# Altium footprint library Switches.PcbLib: 1 footprints
Each footprint in its own frame and in the unit in brackets; x right, y up, seen from the top. Pads: shape width x height; smd on the part's side, far side on the other; paste and mask are expansions set on the pad; w line width, h text height; cw(c..) or ccw(c..) is an arc to the next point about the centre after c.
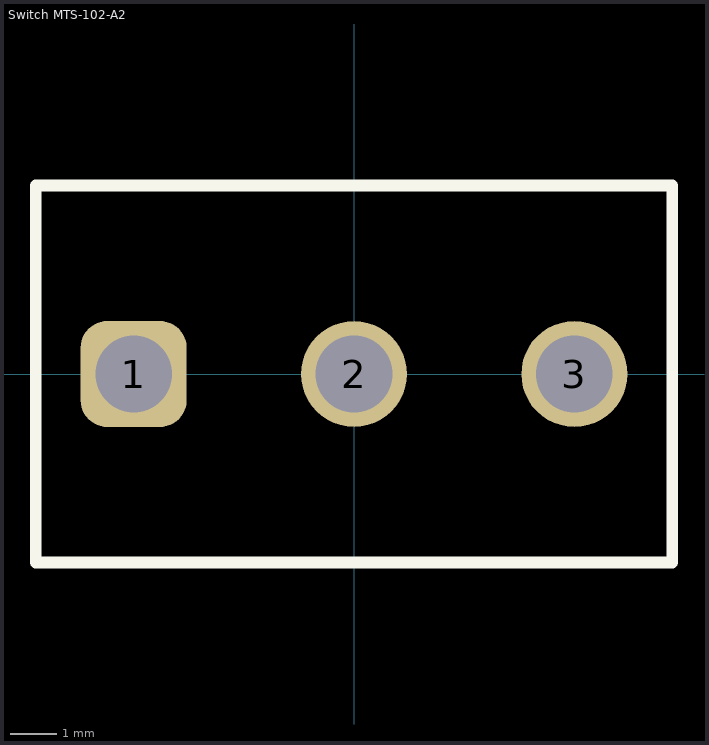
[diagram p0: the footprint, top view; thin cyan lines are the x and y axes]

## Switch MTS-102-A2 [mil] "Miniature Toogle Switch 1-Pole"
pads (3):
  rrect50% 90x90 hole 65: 1(-187,0)
  round 90 hole 65: 2(0,0) 3(187,0)
Top Overlay:
  lines w10: -270,-160 -270,160 270,160 270,-160 -270,-160
3D body "Switch MTS-10x-A2.step": height 1135.88, standoff -228.03, extent -259.84,-155.5 259.85,155.52